# EAGLE library part ESP-12S (library SamacSys_Parts)
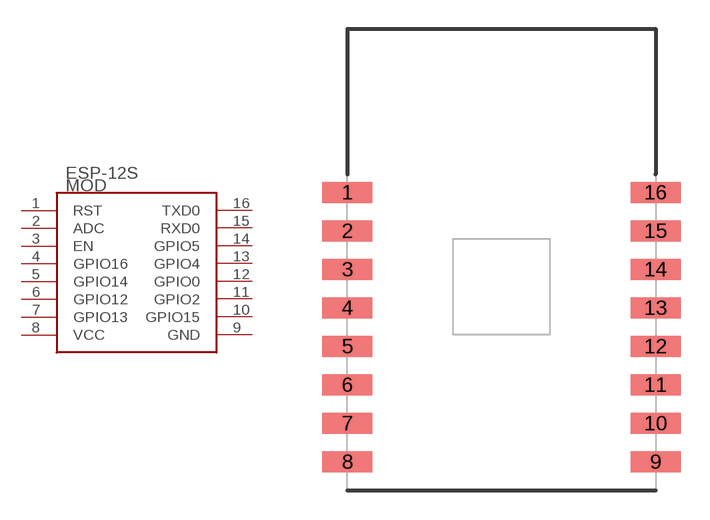
[diagram p0: symbol with the pads of ESP-12S; footprint ESP-12S]

Designator prefix MOD

## ESP-12S  [ESP-12S]
1  RST
2  ADC
3  EN
4  GPIO16
5  GPIO14
6  GPIO12
7  GPIO13
8  VCC
9  GND
10  GPIO15
11  GPIO2
12  GPIO0
13  GPIO4
14  GPIO5
15  RXD0
16  TXD0

## Footprint ESP-12S (pad centres in mm)
ESP-12S
smd 2.6 x 1.1: 1 -8,7; 2 -8,5; 3 -8,3; 4 -8,1; 5 -8,-1; 6 -8,-3; 7 -8,-5; 8 -8,-7; 9 8,-7; 10 8,-5; 11 8,-3; 12 8,-1; 13 8,1; 14 8,3; 15 8,5; 16 8,7